# Altium schematic symbol library con-tycoelectronics.SCHLIB: 14 symbols
Pins are listed as number, name and electrical type; pins without a type are passive.

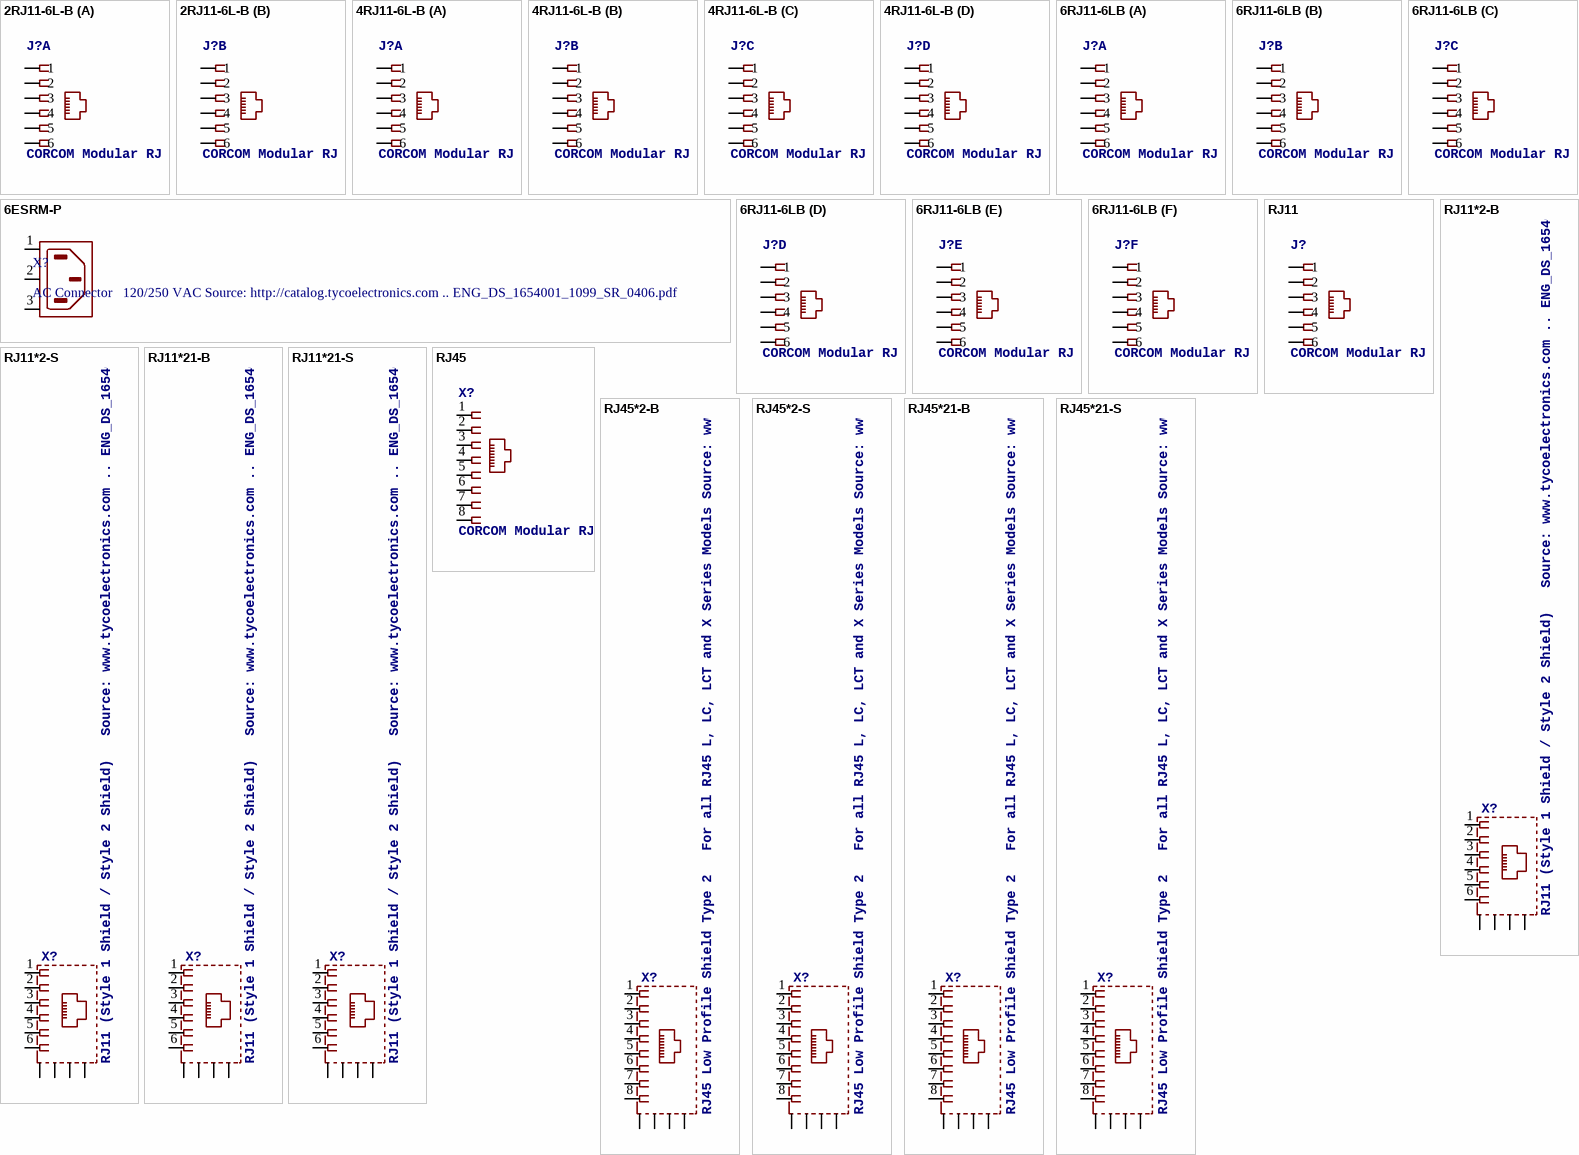
[diagram p0: symbols 2RJ11-6L-B to RJ45*21-S]

## 2RJ11-6L-B
designator J?, comment CORCOM Modular RJ Jacks L - Ganged Series   Source: www.tycoelectronics.com .. ENG_DS_1654001_1099_RJ_L_0507.pdf
MPN: 2RJ11-6L-B; MF: TYCO ELECTRONICS; OC_FARNELL: unknown; OC_NEWARK: 48F3954
footprint 2RJ11
part A pins: 1-1 1, 1-2 2, 1-3 3, 1-4 4, 1-5 5, 1-6 6
part B pins: 2-1 1, 2-2 2, 2-3 3, 2-4 4, 2-5 5, 2-6 6

## 4RJ11-6L-B
designator J?, comment CORCOM Modular RJ Jacks L - Ganged Series   Source: www.tycoelectronics.com .. ENG_DS_1654001_1099_RJ_L_0507.pdf
MPN: 4RJ11-6L-B; MF: TYCO ELECTRONICS; OC_FARNELL: unknown; OC_NEWARK: 48F3956
footprint 4RJ11
part A pins: 1-1 1, 1-2 2, 1-3 3, 1-4 4, 1-5 5, 1-6 6
part B pins: 2-1 1, 2-2 2, 2-3 3, 2-4 4, 2-5 5, 2-6 6
part C pins: 3-1 1, 3-2 2, 3-3 3, 3-4 4, 3-5 5, 3-6 6
part D pins: 4-1 1, 4-2 2, 4-3 3, 4-4 4, 4-5 5, 4-6 6

## 6ESRM-P
designator X?, comment AC Connector   120/250 VAC Source: http://catalog.tycoelectronics.com .. ENG_DS_1654001_1099_SR_0406.pdf
MPN: 6ESRM-P; MF: TYCO ELECTRONICS; OC_FARNELL: unknown; OC_NEWARK: 87F1821
footprint 6ESRM-P
pins: 1 AC1, 2 SH, 3 AC2

## 6RJ11-6LB
designator J?, comment CORCOM Modular RJ Jacks L - Ganged Series   Source: www.tycoelectronics.com .. ENG_DS_1654001_1099_RJ_L_0507.pdf
MPN: 6RJ11-6L-B; OC_FARNELL: unknown; OC_NEWARK: 19R5426
footprint 6RJ11
part A pins: 1-1 1, 1-2 2, 1-3 3, 1-4 4, 1-5 5, 1-6 6
part B pins: 2-1 1, 2-2 2, 2-3 3, 2-4 4, 2-5 5, 2-6 6
part C pins: 3-1 1, 3-2 2, 3-3 3, 3-4 4, 3-5 5, 3-6 6
part D pins: 4-1 1, 4-2 2, 4-3 3, 4-4 4, 4-5 5, 4-6 6
part E pins: 5-1 1, 5-2 2, 5-3 3, 5-4 4, 5-5 5, 5-6 6
part F pins: 6-1 1, 6-2 2, 6-3 3, 6-4 4, 6-5 5, 6-6 6

## RJ11
designator J?, comment CORCOM Modular RJ Jacks No Shield   Source: www.tycoelectronics.com .. ENG_DS_1654001_1099_RJ_L_0507.pdf
MPN: RJ11-2L-B; MPN: RJ11-2L-S; MPN: RJ11-4L-B; MPN: RJ11-4L-S; MPN: 6609214-3; MPN: RJ11-6L-B; MPN: RJ11-6L-S; MPN: RJ11-6X; MF: TYCO ELECTRONICS; OC_FARNELL: unknown; OC_NEWARK: 83F4463; OC_NEWARK: 73K3294; OC_NEWARK: unknown; OC_NEWARK: 52K3315; OC_NEWARK: 69K7126; OC_NEWARK: 19R7022; OC_NEWARK: 52K3613; OC_FARNELL: 1654827; OC_NEWARK: 50F1358; OC_NEWARK: 16R6089
footprint RJ11-NO_SHIELD
pins: 1, 2, 3, 4, 5, 6

## RJ11*2-B
designator X?, comment RJ11 (Style 1 Shield / Style 2 Shield)   Source: www.tycoelectronics.com .. ENG_DS_1654001_1099_RJ_L_0507.pdf
MPN: RJ11-4L2-B; MPN: RJ11-4LC2-B; MPN: RJ11-6L2-B; MPN: RJ11-6LC2-B; MPN: RJ11-6LCT2-B; OC_FARNELL: unknown; OC_NEWARK: unknown; MF: TYCO ELECTRONICS; OC_NEWARK: 50F8856; OC_NEWARK: 21M5804; OC_NEWARK: 10M8526; OC_NEWARK: 16R6085; OC_NEWARK: 16R6083
footprint RJ11-SHIELD2
pins: 1, 2, 3, 4, 5, 6, S1 S@1, S2 S@2, S3 S@3, S4 S@4

## RJ11*2-S
designator X?, comment RJ11 (Style 1 Shield / Style 2 Shield)   Source: www.tycoelectronics.com .. ENG_DS_1654001_1099_RJ_L_0507.pdf
MPN: RJ11-2LC2-S; MPN: RJ11-4L2-S; MPN: RJ11-6L2-S=F9181; MPN: RJ11-6LC2-S; MPN: RJ11-6LCT2-S.; OC_FARNELL: unknown; OC_NEWARK: 16R6077; MF: TYCO ELECTRONICS; OC_NEWARK: 50F8855; OC_NEWARK: unknown; OC_NEWARK: 80K4730; OC_NEWARK: 16R6086; OC_NEWARK: 91F7257
footprint RJ11-SHIELD2
pins: 1, 2, 3, 4, 5, 6, S1 S@1, S2 S@2, S3 S@3, S4 S@4

## RJ11*21-B
designator X?, comment RJ11 (Style 1 Shield / Style 2 Shield)   Source: www.tycoelectronics.com .. ENG_DS_1654001_1099_RJ_L_0507.pdf
OC_FARNELL: unknown; OC_NEWARK: unknown
footprint RJ11-SHIELD1
pins: 1, 2, 3, 4, 5, 6, M1 S@1, M2 S@2, M3 S@3, M4 S@4

## RJ11*21-S
designator X?, comment RJ11 (Style 1 Shield / Style 2 Shield)   Source: www.tycoelectronics.com .. ENG_DS_1654001_1099_RJ_L_0507.pdf
OC_FARNELL: unknown; OC_NEWARK: unknown
footprint RJ11-SHIELD1
pins: 1, 2, 3, 4, 5, 6, M1 S@1, M2 S@2, M3 S@3, M4 S@4

## RJ45
designator X?, comment CORCOM Modular RJ Jacks No Shield   Source: www.tycoelectronics.com .. ENG_DS_1654001_1099_RJ_L_0507.pdf
MPN: RJ45-6L-B; MPN: RJ45-6L-S; MPN: RJ45-6X; MPN: RJ45-8L-B; MPN: RJ45-8L-S; MPN: RJ45-8X; OC_FARNELL: unknown; OC_NEWARK: 16R6090; OC_NEWARK: 16R6091; OC_NEWARK: 01P1604; MF: TYCO ELECTRONICS; OC_FARNELL: 1279843; OC_NEWARK: 52K4445; OC_NEWARK: 80K9067; OC_NEWARK: 16R6101
footprint RJ45-NO-SHIELD
pins: 1, 2, 3, 4, 5, 6, 7, 8

## RJ45*2-B
designator X?, comment RJ45 Low Profile Shield Type 2   For all RJ45 L, LC, LCT and X Series Models Source: www.tycoelectronics.com .. ENG_DS_1654001_1099_RJ_L_0507.pdf
MPN: RJ45-6L2-B; MPN: RJ45-6LC2-B; MPN: RJ45-8L2-B; MPN: RJ45-8LC2-B.; MPN: RJ45-8LCT2-B; OC_FARNELL: unknown; OC_NEWARK: 16R6096; OC_NEWARK: 16R6094; MF: TYCO ELECTRONICS; OC_NEWARK: 52K3810; OC_NEWARK: 50F1338; OC_NEWARK: 91F7263
footprint RJ45-SHIELD2
pins: 1, 2, 3, 4, 5, 6, 7, 8, S1 S@1, S2 S@2, S3 S@3, S4 S@4

## RJ45*2-S
designator X?, comment RJ45 Low Profile Shield Type 2   For all RJ45 L, LC, LCT and X Series Models Source: www.tycoelectronics.com .. ENG_DS_1654001_1099_RJ_L_0507.pdf
MPN: RJ45-6L2-S; MPN: RJ45-6LC2-S; MPN: RJ45-8L2-S; MPN: RJ45-8LC2-S; MPN: RJ45-8LCT2-S; OC_FARNELL: unknown; OC_NEWARK: 16R6097; OC_NEWARK: 16R6095; OC_NEWARK: unknown; MF: TYCO ELECTRONICS; OC_NEWARK: 52K4446; OC_NEWARK: 16R6099; OC_NEWARK: 84K0524
footprint RJ45-SHIELD2
pins: 1, 2, 3, 4, 5, 6, 7, 8, S1 S@1, S2 S@2, S3 S@3, S4 S@4

## RJ45*21-B
designator X?, comment RJ45 Low Profile Shield Type 2   For all RJ45 L, LC, LCT and X Series Models Source: www.tycoelectronics.com .. ENG_DS_1654001_1099_RJ_L_0507.pdf
OC_FARNELL: unknown; OC_NEWARK: unknown
footprint RJ45-SHIELD1
pins: 1, 2, 3, 4, 5, 6, 7, 8, S1 S@1, S2 S@2, S3 S@3, S4 S@4

## RJ45*21-S
designator X?, comment RJ45 Low Profile Shield Type 2   For all RJ45 L, LC, LCT and X Series Models Source: www.tycoelectronics.com .. ENG_DS_1654001_1099_RJ_L_0507.pdf
OC_FARNELL: unknown; OC_NEWARK: unknown
footprint RJ45-SHIELD1
pins: 1, 2, 3, 4, 5, 6, 7, 8, S1 S@1, S2 S@2, S3 S@3, S4 S@4